# Altium footprint library 3102_Library_Will_V2.PcbLib: 3 footprints
Each footprint in its own frame and in the unit in brackets; x right, y up, seen from the top. Pads: shape width x height; smd on the part's side, far side on the other; paste and mask are expansions set on the pad; w line width, h text height; cw(c..) or ccw(c..) is an arc to the next point about the centre after c.
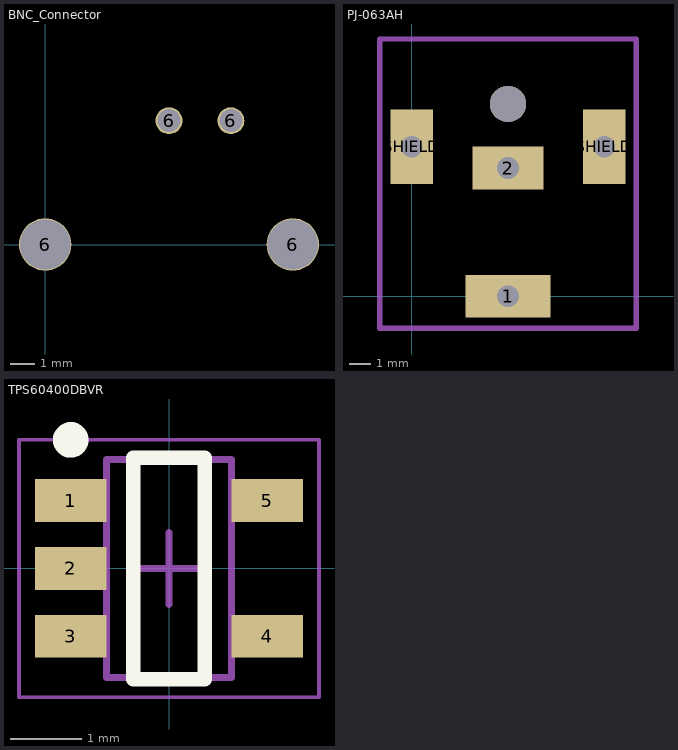
[diagram p0: the footprints below, top view; thin cyan lines are the x and y axes]

## BNC_Connector [mm]
pads (4):
  round 2.15 hole 2.06: 6(0,0) 6(10.16,0)
  round 1.1 hole 0.94: 6(5.08,5.08) 6(7.62,5.08)
3D body "11964.stp": height 17.62, standoff -2.37, extent -2.307,-28.555 12.45,7.005

## PJ-063AH [mm] "DC Jack"
pads (5):
  rect 4x2 hole 1.02 square: 1(4.5,0)
  rect 3.3x2 hole 1.02 square: 2(4.5,6)
  round 1.7 hole 1.7: "MOUNT HOLE"(4.5,9)
  rect 2x3.5 hole 1.02 square: SHIELD(0,7) SHIELD(9,7)
Mechanical 1:
  lines w0.254: -1.5,-1.5 -1.5,-0.5 -1.5,12.04 10.5,12.04 10.5,-1.5 -1.5,-1.5
3D body "pj-063ah.stp": height 9.5, standoff -2.5, extent -0.65,-1 9.65,12

## TPS60400DBVR [mm] "SOT23, 5-Leads, Body 2.90x2.80mm, Pitch 0.95mm, IPC Medium Density"
height 1.45
pads (5):
  rect 1x0.6 smd: 1(-1.375,0.95) 2(-1.375,0) 3(-1.375,-0.95) 4(1.375,-0.95) 5(1.375,0.95)
Top Overlay:
  circle w0.25: c-1.375,1.8 r0.125
  lines w0.2: -0.5,-1.55 -0.5,1.55 0.5,1.55 0.5,-1.55 -0.5,-1.55
Mechanical 13:
  lines w0.1: -0.875,-1.525 0.875,-1.525 0.875,1.525 -0.875,1.525 -0.875,-1.525
Mechanical 15:
  lines w0.05: -2.1,-1.8 2.1,-1.8 2.1,1.8 -2.1,1.8 -2.1,-1.8
  lines w0.1: -0.5,0 0.5,0 ; 0,-0.5 0,0.5
3D body: height 1.45, standoff 0.15, extent -0.875,-1.525 0.875,1.525